# EAGLE library part LDQ-M51XRI (library Digilent)
144-002: LED Seven Segment Display
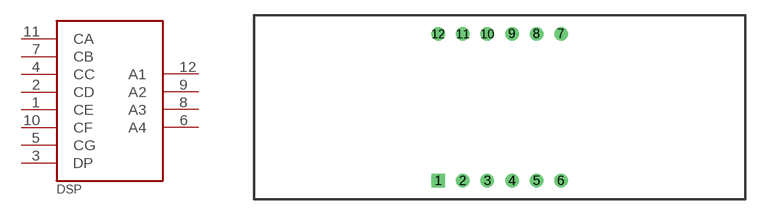
[diagram p22: symbol with the pads of LDQ-M51XRI; footprint LDQ-M51XRI]

Designator prefix DSP

## LDQ-M51XRI  [LDQ-M51XRI]
1  CE
2  CD
3  DP
4  CC
5  CG
6  A4
7  CB
8  A3
9  A2
10  CF
11  CA
12  A1

## Footprint LDQ-M51XRI (pad centres in mm)
drill 0.889 square: 1 -6.35,-7.62
drill 0.889 round: 2 -3.81,-7.62; 3 -1.27,-7.62; 4 1.27,-7.62; 5 3.81,-7.62; 6 6.35,-7.62; 7 6.35,7.62; 8 3.81,7.62; 9 1.27,7.62; 10 -1.27,7.62; 11 -3.81,7.62; 12 -6.35,7.62